# Altium schematic symbol library ABM8-16.000MHZ-B2-T.SchLib: 1 symbol
Pins are listed as number, name and electrical type; pins without a type are passive.

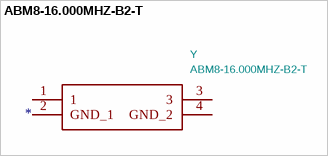
[diagram p0: symbol ABM8-16.000MHZ-B2-T]

## ABM8-16.000MHZ-B2-T
designator Y  value ABM8-16.000MHZ-B2-T
ABRACON - ABM8-16.000MHZ-B2-T - CRYSTAL, 16MHZ, 18PF CL, 3.2X2.5MM, SMT; Footprint: ABM8; Supplier: http://www.abracon.com/Resonators/abm8.pdf; Description_: ABRACON - ABM8-16.000MHZ-B2-T - CRYSTAL, 16MHZ, 18PF CL, 3.2X2.5MM, SMT; Manufacturer_Name: ABRACON; Manufacturer_Part_Number: ABM8-16.000MHZ-B2-T; Mouser Part Number: 815-ABM8-16-B2-T; Mouser Price/Stock: https://www.mouser.com/Search/Refine.aspx?Keyword=815-ABM8-16-B2-T; RS Part Number: 1712803; RS Price/Stock: https://uk.rs-online.com/web/p/products/1712803
footprint ABM8
pins: 1, 2 GND_1, 3, 4 GND_2